# Altium footprint library 08B0-1X1T-36-F.PcbLib: 1 footprints
Each footprint in its own frame and in the unit in brackets; x right, y up, seen from the top. Pads: shape width x height; smd on the part's side, far side on the other; paste and mask are expansions set on the pad; w line width, h text height; cw(c..) or ccw(c..) is an arc to the next point about the centre after c.
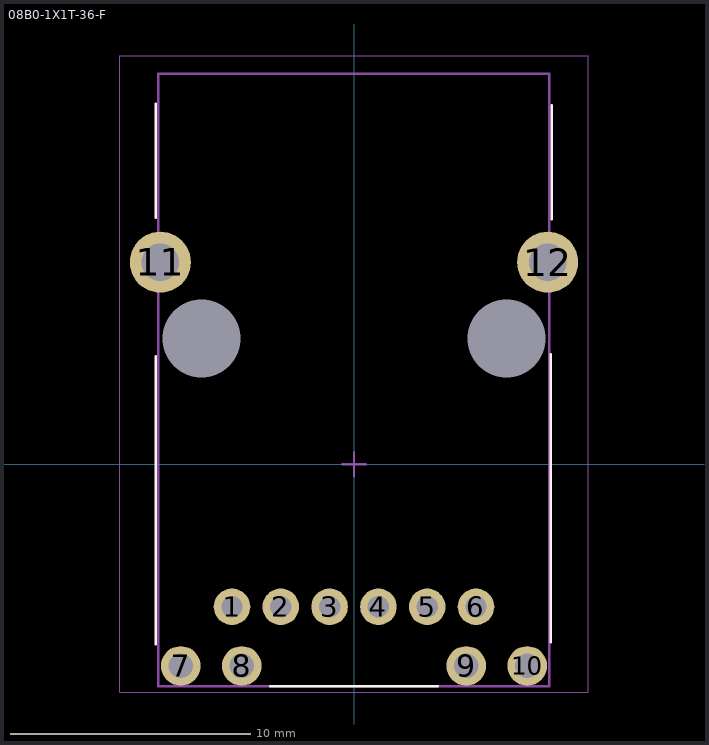
[diagram p0: the footprint, top view; thin cyan lines are the x and y axes]

## 08B0-1X1T-36-F [mil]
pads (14):
  round 60 hole 35: 1(-200,-234) 2(-120,-234) 3(-40,-234) 4(40,-234) 5(120,-234) 6(200,-234)
  round 65 hole 40: 7(-284,-331) 8(-184,-331) 9(184,-331) 10(284,-331)
  round 100 hole 62: 11(-317.5,331) 12(317.5,331)
  round 0 hole 128 unplated: 13(-250,206) 14(250,206)
Top Overlay:
  lines w3.94: -324.8,-295.28 -324.8,177.17 ; -324.8,403.54 -324.8,590.55 ; -137.8,-364.17 137.8,-364.17 ; 322.8,-292.63 322.8,179.81 ; 324.52,401.53 324.52,588.54
Mechanical 1:
  lines w3.94: 320.01,-364.19 320.01,639.75 -321,639.76 -321,-364.17 320.01,-364.17
  text ".Designator" at -130.08,-11.55 h25.59
Mechanical 2:
  lines w1.97: -383.86,-374.02 383.86,-374.02 383.86,669.29 -383.86,669.29 -383.86,-374.02
  lines w3.94: -19.69,0 19.68,0 ; 0,-19.68 0,19.69
3D body "08B0-1X1T-36-F.stp": height 605.99, standoff -130, extent -375.88,-366.5 375.88,663.5